# Altium footprint library ABMM-25.000MHZ-B2-T.PcbLib: 1 footprints
Each footprint in its own frame and in the unit in brackets; x right, y up, seen from the top. Pads: shape width x height; smd on the part's side, far side on the other; paste and mask are expansions set on the pad; w line width, h text height; cw(c..) or ccw(c..) is an arc to the next point about the centre after c.
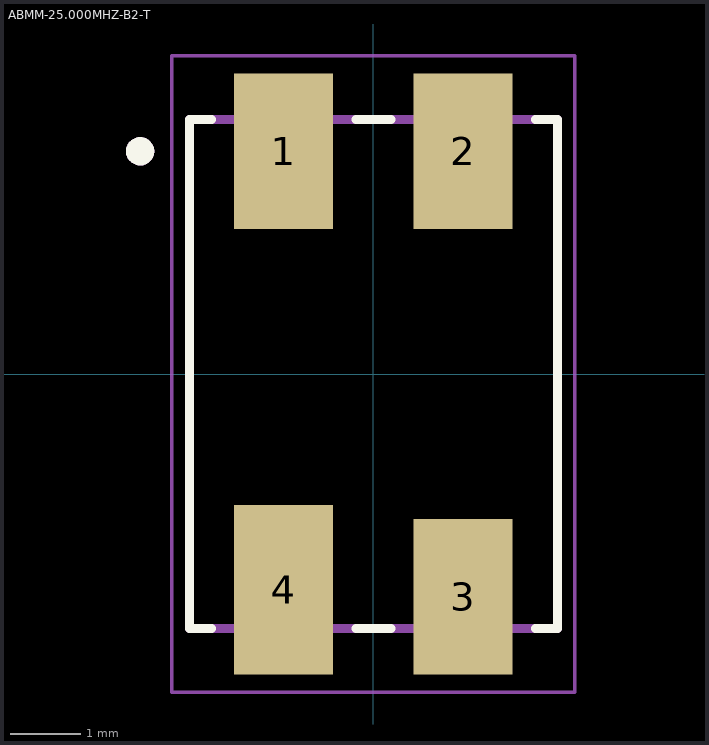
[diagram p0: the footprint, top view; thin cyan lines are the x and y axes]

## ABMM-25.000MHZ-B2-T [mm]
height 1.3
pads (4):
  rect 1.4x2.2 smd: 1(-1.27,3.15) 2(1.27,3.15) 3(1.27,-3.15)
  rect 1.4x2.4 smd: 4(-1.27,-3.05)
Top Overlay:
  circle w0.2: c-3.3,3.15 r0.1
  lines w0.127: -2.29,-3.6 -2.6,-3.6 -2.6,3.6 -2.29,3.6 ; -0.25,-3.6 0.25,-3.6 ; -0.25,3.6 0.25,3.6 ; 2.29,-3.6 2.6,-3.6 2.6,3.6 2.29,3.6
Mechanical 13:
  circle w0.2: c-3.3,3.15 r0.1
  lines w0.127: -2.6,-3.6 -2.6,3.6 2.6,3.6 2.6,-3.6 -2.6,-3.6
Mechanical 15:
  lines w0.05: -2.85,-4.5 -2.85,4.5 2.85,4.5 2.85,-4.5 -2.85,-4.5
3D body "ABMM-25.000MHZ-B2-T.STEP": height 1.3, standoff 0, extent -2.603,-3.594 2.603,3.594